# Altium footprint library TE_9-966140-2.PcbLib: 1 footprints
Each footprint in its own frame and in the unit in brackets; x right, y up, seen from the top. Pads: shape width x height; smd on the part's side, far side on the other; paste and mask are expansions set on the pad; w line width, h text height; cw(c..) or ccw(c..) is an arc to the next point about the centre after c.
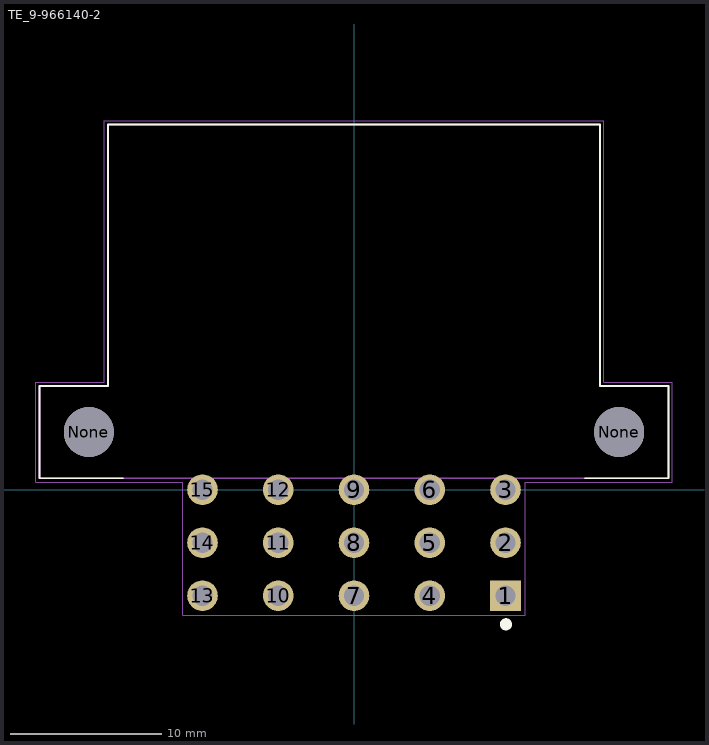
[diagram p0: the footprint, top view; thin cyan lines are the x and y axes]

## TE_9-966140-2 [mm]
pads (17):
  rect 2.025x2.025 hole 1.35: 1(10,-7)
  round 2.025 hole 1.35: 2(10,-3.5) 3(10,0) 4(5,-7) 5(5,-3.5) 6(5,0) 7(0,-7) 8(0,-3.5) 9(0,0) 10(-5,-7) 11(-5,-3.5) 12(-5,0) 13(-10,-7) 14(-10,-3.5) 15(-10,0)
  round 3.3 hole 3.3 unplated: None(-17.5,3.8) None(17.5,3.8)
Top Overlay:
  circle w0.4: c10.033,-8.89 r0.2
  lines w0.127: -15.25,0.75 -20.75,0.75 -20.75,6.848 -16.25,6.848 -16.25,24.1 16.25,24.1 16.25,6.851 20.75,6.851 20.75,0.751 15.25,0.751 ; 15.25,0.75 15.25,0.751
Mechanical 13:
  lines w0.127: -20.75,0.75 20.75,0.75 ; -20.75,0.75 -20.75,6.85 ; -20.75,0.75 20.75,0.75 ; -20.75,0.75 -20.75,6.85 ; -20.75,6.85 -16.25,6.85 ; -20.75,6.85 -16.25,6.85 ; -16.25,6.85 -16.25,24.1 ; -16.25,6.85 -16.25,24.1 ; -16.25,24.1 16.25,24.1 ; -16.25,24.1 16.25,24.1 ; 16.25,6.85 20.75,6.85 ; 16.25,6.85 16.25,24.1 ; 16.25,6.85 20.75,6.85 ; 16.25,6.85 16.25,24.1 ; 20.75,0.75 20.75,6.85 ; 20.75,0.75 20.75,6.85
Mechanical 15:
  lines w0.05: -21,0.5 -21,7.1 -16.5,7.1 -16.5,24.35 16.5,24.35 16.5,7.1 21,7.1 21,0.5 11.3,0.5 11.3,-8.3 -11.3,-8.3 -11.3,0.5 -21,0.5
3D body "c-9-966140-2-f-3d.stp": height 25.7, standoff -3, extent -20.4,-7.366 20.45,23.534